# EAGLE library part SN74LS06D (library FaBo-LogicIC)
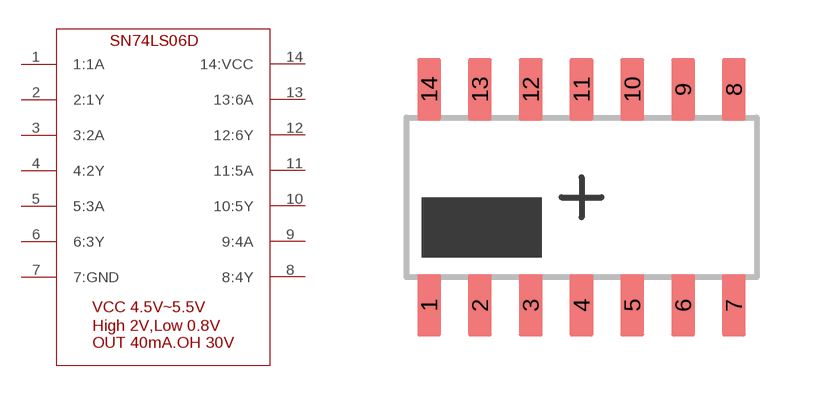
[diagram p3: symbol with the pads of SOIC14; footprint SOIC14]

Designator prefix -

## SN74LS06D  [SOIC14]
1  1:1A
2  2:1Y
3  3:2A
4  4:2Y
5  5:3A
6  6:3Y
7  7:GND
8  8:4Y
9  9:4A
10  10:5Y
11  11:5A
12  12:6Y
13  13:6A
14  14:VCC

## Footprint SOIC14 (pad centres in mm)
smd 0.6 x 1.55: 1 -3.81,-2.7; 2 -2.54,-2.7; 3 -1.27,-2.7; 4 0,-2.7; 5 1.27,-2.7; 6 2.54,-2.7; 7 3.81,-2.7; 8 3.81,2.7; 9 2.54,2.7; 10 1.27,2.7; 11 0,2.7; 12 -1.27,2.7; 13 -2.54,2.7; 14 -3.81,2.7